# EAGLE library part 4455-A10 (library con-molex-kk)
RECEPTACLE
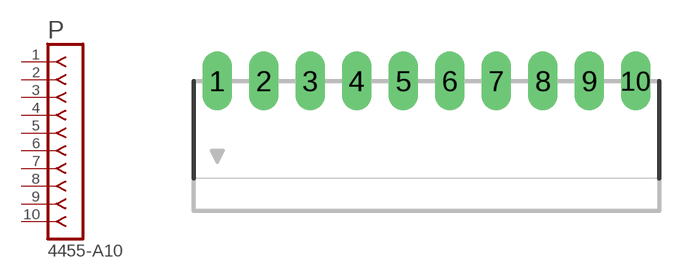
[diagram p94: symbol with the pads of 4455-A10; footprint 4455-A10]

Designator prefix P

## 4455-A10  [4455-A10]
1  1  pas
2  2  pas
3  3  pas
4  4  pas
5  5  pas
6  6  pas
7  7  pas
8  8  pas
9  9  pas
10  10  pas

## Footprint 4455-A10 (pad centres in mm)
RECEPTACAL Right Angle, 0.1" pitch
drill 1.067 long: 1 -11.43,0; 2 -8.89,0; 3 -6.35,0; 4 -3.81,0; 5 -1.27,0; 6 1.27,0; 7 3.81,0; 8 6.35,0; 9 8.89,0; 10 11.43,0